# Altium integrated library Philips Discrete MOSFET - Power.IntLib: 73 symbols (part 1 of 2)
Pins are listed as number, name and electrical type; pins without a type are passive.

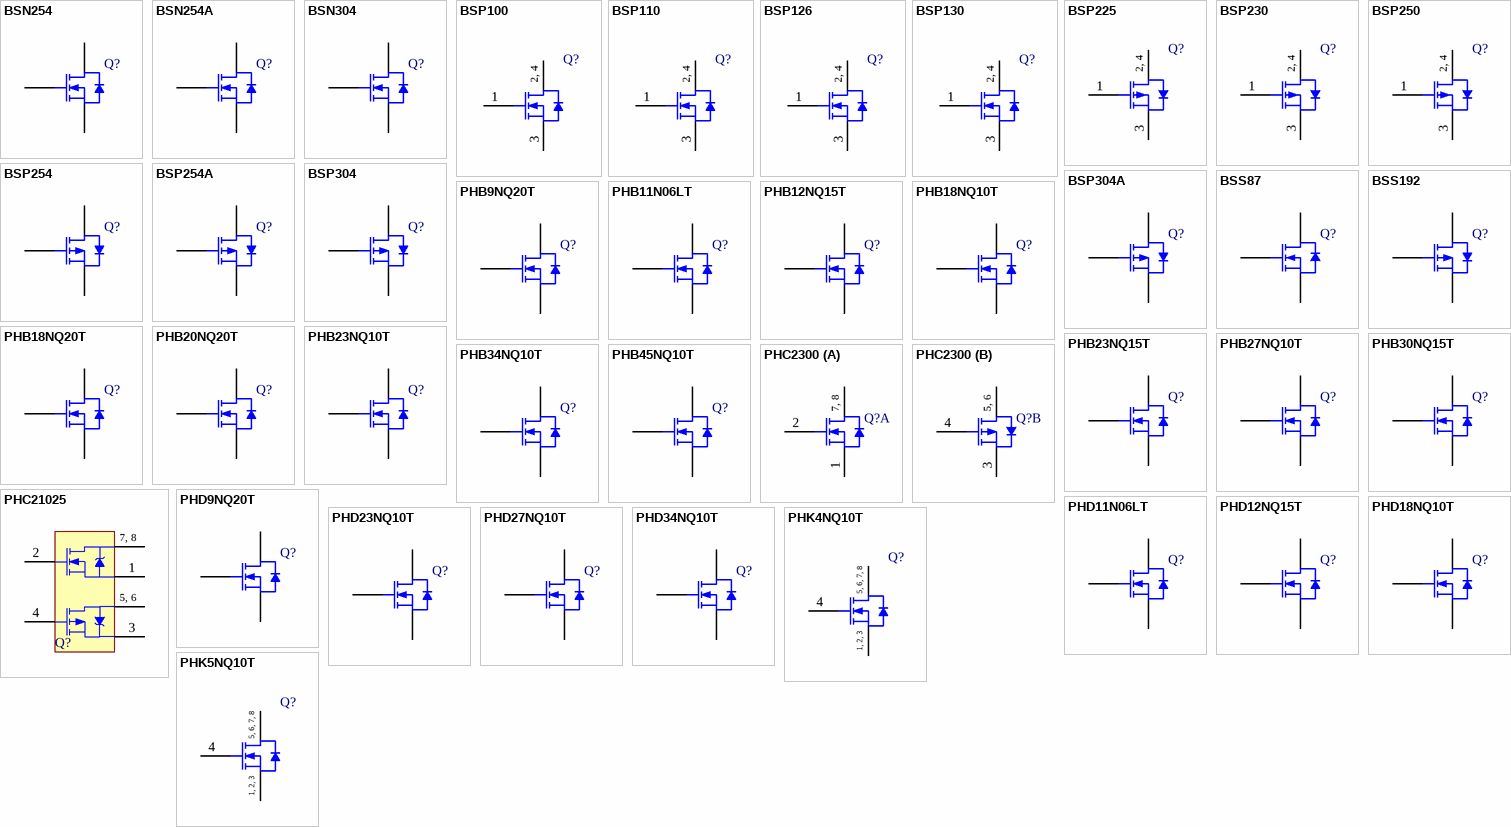
[diagram p0: symbols BSN254 to PHK5NQ10T]

## BSN254
designator Q?
N-channel Enhancement Mode Vertical D-MOSFET; Published: 17-Sep-2003; DatasheetVersion: 19-Feb-2002; PackageVersion: rev3, May-2000; PackageReference: SOT54; Publisher: Altium Limited; PackageDescription: TO, Flat Index; 3 In-Line, Axial Leads; Body Dia. 4.6mm; Leads 0.48 x 0.45 mm (max); Code_JEDEC: TO-92; ComponentLink1Description: Manufacturer Link; ComponentLink1URL: http://www.semiconductors.philips.com/; ComponentLink2Description: Datasheet; ComponentLink2URL: http://www.semiconductors.philips.com/acrobat/datasheets/BSN254_BSN254A_3.pdf
footprint SOT54 (TO, Flat Index; 3 In-Line, Axial Leads; Body Dia. 4.6mm; Leads 0.48 x 0.45 mm (max))
simulation model BSN254 (SUBCKT)
pins: 1 G, 2 D, 3 S

## BSN254A
designator Q?
N-channel Enhancement Mode Vertical D-MOSFET; Published: 17-Sep-2003; DatasheetVersion: 19-Feb-2002; PackageVersion: rev3, May-2000; PackageReference: SOT54; Publisher: Altium Limited; PackageDescription: TO, Flat Index; 3 In-Line, Axial Leads; Body Dia. 4.6mm; Leads 0.48 x 0.45 mm (max); Code_JEDEC: TO-92; ComponentLink1Description: Manufacturer Link; ComponentLink1URL: http://www.semiconductors.philips.com/; ComponentLink2Description: Datasheet; ComponentLink2URL: http://www.semiconductors.philips.com/acrobat/datasheets/BSN254_BSN254A_3.pdf
footprint SOT54 (TO, Flat Index; 3 In-Line, Axial Leads; Body Dia. 4.6mm; Leads 0.48 x 0.45 mm (max))
simulation model BSN254A (SUBCKT)
pins: 1 S, 2 G, 3 D

## BSN304
designator Q?
N-channel Enhancement Mode Vertical D-MOSFET; Published: 17-Sep-2003; DatasheetVersion: 11-Dec-2001; PackageVersion: rev3, May-2000; PackageReference: SOT54; Publisher: Altium Limited; PackageDescription: TO, Flat Index; 3 In-Line, Axial Leads; Body Dia. 4.6mm; Leads 0.48 x 0.45 mm (max); Code_JEDEC: TO-92; ComponentLink1Description: Manufacturer Link; ComponentLink1URL: http://www.semiconductors.philips.com/; ComponentLink2Description: Datasheet; ComponentLink2URL: http://www.semiconductors.philips.com/acrobat/datasheets/BSN304_3.pdf
footprint SOT54 (TO, Flat Index; 3 In-Line, Axial Leads; Body Dia. 4.6mm; Leads 0.48 x 0.45 mm (max))
simulation model BSN304 (SUBCKT)
pins: 1 G, 2 D, 3 S

## BSP100
designator Q?
N-channel Enhancement Mode MOSFET; Published: 17-Sep-2003; DatasheetVersion: Feb-1999; PackageVersion: Aug-2001; PackageReference: SOT223; Publisher: Altium Limited; PackageDescription: SOT-223/SC-73; 4 Leads; Body 6.7 x 7.3 mm, inc. leads (LxW max); ComponentLink1Description: Manufacturer Link; ComponentLink1URL: http://www.semiconductors.philips.com/; ComponentLink2Description: Datasheet; ComponentLink2URL: http://www.semiconductors.philips.com/acrobat/datasheets/BSP100_3.pdf
footprint SOT223 (SOT-223/SC-73; 4 Leads; Body 6.7 x 7.3 mm, inc. leads (LxW max))
simulation model BSP100 (SUBCKT)
pins: 1 G, 2 D, 3 S, 4 D
text: 2, 4

## BSP110
designator Q?
N-channel Enhancement Mode FET; Published: 17-Sep-2003; DatasheetVersion: 26-Jul-2000; PackageVersion: Aug-2001; PackageReference: SOT223; Publisher: Altium Limited; PackageDescription: SOT-223/SC-73; 4 Leads; Body 6.7 x 7.3 mm, inc. leads (LxW max); ComponentLink1Description: Manufacturer Link; ComponentLink1URL: http://www.semiconductors.philips.com/; ComponentLink2Description: Datasheet; ComponentLink2URL: http://www.semiconductors.philips.com/acrobat/datasheets/BSP110-03.pdf
footprint SOT223 (SOT-223/SC-73; 4 Leads; Body 6.7 x 7.3 mm, inc. leads (LxW max))
simulation model BSP110 (SUBCKT)
pins: 1 G, 2 D, 3 S, 4 D
text: 2, 4

## BSP126
designator Q?
N-channel Enhancement Mode Vertical D-MOSFET; Published: 17-Sep-2003; DatasheetVersion: 19-Feb-2002; PackageVersion: Aug-2001; PackageReference: SOT223; Publisher: Altium Limited; PackageDescription: SOT-223/SC-73; 4 Leads; Body 6.7 x 7.3 mm, inc. leads (LxW max); ComponentLink1Description: Manufacturer Link; ComponentLink1URL: http://www.semiconductors.philips.com/; ComponentLink2Description: Datasheet; ComponentLink2URL: http://www.semiconductors.philips.com/acrobat/datasheets/BSP126_3.pdf
footprint SOT223 (SOT-223/SC-73; 4 Leads; Body 6.7 x 7.3 mm, inc. leads (LxW max))
simulation model BSP126 (SUBCKT)
pins: 1 G, 2 D, 3 S, 4 D
text: 2, 4

## BSP130
designator Q?
N-channel Enhancement Mode Vertical D-MOSFET; Published: 17-Sep-2003; DatasheetVersion: 11-Dec-2001; PackageVersion: Aug-2001; PackageReference: SOT223; Publisher: Altium Limited; PackageDescription: SOT-223/SC-73; 4 Leads; Body 6.7 x 7.3 mm, inc. leads (LxW max); ComponentLink1Description: Manufacturer Link; ComponentLink1URL: http://www.semiconductors.philips.com/; ComponentLink2Description: Datasheet; ComponentLink2URL: http://www.semiconductors.philips.com/acrobat/datasheets/BSP130_3.pdf
footprint SOT223 (SOT-223/SC-73; 4 Leads; Body 6.7 x 7.3 mm, inc. leads (LxW max))
simulation model BSP130 (SUBCKT)
pins: 1 G, 2 D, 3 S, 4 D
text: 2, 4

## BSP225
designator Q?
P-channel Enhancement Mode Vertical D-MOSFET; Published: 17-Sep-2003; DatasheetVersion: Apr-1995; PackageVersion: Aug-2001; PackageReference: SOT223; Publisher: Altium Limited; PackageDescription: SOT-223/SC-73; 4 Leads; Body 6.7 x 7.3 mm, inc. leads (LxW max); ComponentLink1Description: Manufacturer Link; ComponentLink1URL: http://www.semiconductors.philips.com/; ComponentLink2Description: Datasheet; ComponentLink2URL: http://www.semiconductors.philips.com/acrobat/datasheets/BSP225_CNV_2.pdf
footprint SOT223 (SOT-223/SC-73; 4 Leads; Body 6.7 x 7.3 mm, inc. leads (LxW max))
simulation model BSP225 (SUBCKT)
pins: 1 G, 2 D, 3 S, 4 D
text: 2, 4

## BSP230
designator Q?
P-channel Enhancement Mode Vertical D-MOSFET; Published: 17-Sep-2003; DatasheetVersion: 17-Jun-1997; PackageVersion: Aug-2001; PackageReference: SOT223; Publisher: Altium Limited; PackageDescription: SOT-223/SC-73; 4 Leads; Body 6.7 x 7.3 mm, inc. leads (LxW max); ComponentLink1Description: Manufacturer Link; ComponentLink1URL: http://www.semiconductors.philips.com/; ComponentLink2Description: Datasheet; ComponentLink2URL: http://www.semiconductors.philips.com/acrobat/datasheets/BSP230_2.pdf
footprint SOT223 (SOT-223/SC-73; 4 Leads; Body 6.7 x 7.3 mm, inc. leads (LxW max))
simulation model BSP230 (SUBCKT)
pins: 1 G, 2 D, 3 S, 4 D
text: 2, 4

## BSP250
designator Q?
P-channel Enhancement Mode Vertical D-MOSFET; Published: 17-Sep-2003; DatasheetVersion: 20-Jun-1997; PackageVersion: Aug-2001; PackageReference: SOT223; Publisher: Altium Limited; PackageDescription: SOT-223/SC-73; 4 Leads; Body 6.7 x 7.3 mm, inc. leads (LxW max); ComponentLink1Description: Manufacturer Link; ComponentLink1URL: http://www.semiconductors.philips.com/; ComponentLink2Description: Datasheet; ComponentLink2URL: http://www.semiconductors.philips.com/acrobat/datasheets/BSP250_2.pdf
footprint SOT223 (SOT-223/SC-73; 4 Leads; Body 6.7 x 7.3 mm, inc. leads (LxW max))
simulation model BSP250 (SUBCKT)
pins: 1 G, 2 D, 3 S, 4 D
text: 2, 4

## BSP254
designator Q?
P-channel Enhancement Mode Vertical D-MOSFET; Published: 17-Sep-2003; DatasheetVersion: Apr-1995; PackageVersion: rev3, May-2000; PackageReference: SOT54; Publisher: Altium Limited; PackageDescription: TO, Flat Index; 3 In-Line, Axial Leads; Body Dia. 4.6mm; Leads 0.48 x 0.45 mm (max); Code_JEDEC: TO-92; ComponentLink1Description: Manufacturer Link; ComponentLink1URL: http://www.semiconductors.philips.com/; ComponentLink2Description: Datasheet; ComponentLink2URL: http://www.semiconductors.philips.com/acrobat/datasheets/BSP254_A_CNV_2.pdf
footprint SOT54 (TO, Flat Index; 3 In-Line, Axial Leads; Body Dia. 4.6mm; Leads 0.48 x 0.45 mm (max))
simulation model BSP254 (SUBCKT)
pins: 1 G, 2 D, 3 S

## BSP254A
designator Q?
P-channel Enhancement Mode Vertical D-MOSFET; Published: 17-Sep-2003; DatasheetVersion: Apr-1995; PackageVersion: rev3, May-2000; PackageReference: SOT54; Publisher: Altium Limited; PackageDescription: TO, Flat Index; 3 In-Line, Axial Leads; Body Dia. 4.6mm; Leads 0.48 x 0.45 mm (max); Code_JEDEC: TO-92; ComponentLink1Description: Manufacturer Link; ComponentLink1URL: http://www.semiconductors.philips.com/; ComponentLink2Description: Datasheet; ComponentLink2URL: http://www.semiconductors.philips.com/acrobat/datasheets/BSP254_A_CNV_2.pdf
footprint SOT54 (TO, Flat Index; 3 In-Line, Axial Leads; Body Dia. 4.6mm; Leads 0.48 x 0.45 mm (max))
simulation model BSP254A (SUBCKT)
pins: 1 S, 2 G, 3 D

## BSP304
designator Q?
P-channel Enhancement Mode Vertical D-MOSFET; Published: 17-Sep-2003; DatasheetVersion: 7-Apr-1995; PackageVersion: rev3, May-2000; PackageReference: SOT54; Publisher: Altium Limited; PackageDescription: TO, Flat Index; 3 In-Line, Axial Leads; Body Dia. 4.6mm; Leads 0.48 x 0.45 mm (max); Code_JEDEC: TO-92; ComponentLink1Description: Manufacturer Link; ComponentLink1URL: http://www.semiconductors.philips.com/; ComponentLink2Description: Datasheet; ComponentLink2URL: http://www.semiconductors.philips.com/acrobat/datasheets/BSP304_1.pdf
footprint SOT54 (TO, Flat Index; 3 In-Line, Axial Leads; Body Dia. 4.6mm; Leads 0.48 x 0.45 mm (max))
simulation model BSP304 (SUBCKT)
pins: 1 G, 2 D, 3 S

## BSP304A
designator Q?
P-channel Enhancement Mode Vertical D-MOSFET; Published: 17-Sep-2003; DatasheetVersion: 7-Apr-1995; PackageVersion: rev3, May-2000; PackageReference: SOT54; Publisher: Altium Limited; PackageDescription: TO, Flat Index; 3 In-Line, Axial Leads; Body Dia. 4.6mm; Leads 0.48 x 0.45 mm (max); Code_JEDEC: TO-92; ComponentLink1Description: Manufacturer Link; ComponentLink1URL: http://www.semiconductors.philips.com/; ComponentLink2Description: Datasheet; ComponentLink2URL: http://www.semiconductors.philips.com/acrobat/datasheets/BSP304_1.pdf
footprint SOT54 (TO, Flat Index; 3 In-Line, Axial Leads; Body Dia. 4.6mm; Leads 0.48 x 0.45 mm (max))
simulation model BSP304A (SUBCKT)
pins: 1 S, 2 G, 3 D

## BSS87
designator Q?
N-channel Enhancement Mode Vertical D-MOSFET; Published: 17-Sep-2003; LatestRevisionDate: 06-Jun-2005; LatestRevisionNote: PCB pad sequence reversed.; DatasheetVersion: 18-May-2001; PackageVersion: Apr-1999; PackageReference: SOT89; Publisher: Altium Limited; PackageDescription: SOT-89; Body 4.6 x 4.25 mm, inc. leads (LxW max); Reverse Pinning; Code_JEITA: SC-62; Code_JEDEC: TO-243-AA; Code_IPC: SOT 89; ComponentLink1Description: Manufacturer Link; ComponentLink1URL: http://www.semiconductors.philips.com/; ComponentLink2Description: Datasheet; ComponentLink2URL: http://www.semiconductors.philips.com/acrobat/datasheets/BSS87_3.pdf
footprint SOT89 (SOT-89; Body 4.6 x 4.25 mm, inc. leads (LxW max); Reverse Pinning)
simulation model BSS87 (SUBCKT)
pins: 1 S, 2 D, 3 G

## BSS192
designator Q?
P-channel Enhancement Mode Vertical D-MOSFET; Published: 17-Sep-2003; LatestRevisionDate: 06-Jun-2005; LatestRevisionNote: PCB pad sequence reversed.; DatasheetVersion: 22-May-2002; PackageVersion: Apr-1999; PackageReference: SOT89; Publisher: Altium Limited; PackageDescription: SOT-89; Body 4.6 x 4.25 mm, inc. leads (LxW max); Reverse Pinning; Code_JEITA: SC-62; Code_JEDEC: TO-243-AA; Code_IPC: SOT 89; ComponentLink1Description: Manufacturer Link; ComponentLink1URL: http://www.semiconductors.philips.com/; ComponentLink2Description: Datasheet; ComponentLink2URL: http://www.semiconductors.philips.com/acrobat/datasheets/BSS192_3.pdf
footprint SOT89 (SOT-89; Body 4.6 x 4.25 mm, inc. leads (LxW max); Reverse Pinning)
simulation model BSS192 (SUBCKT)
pins: 1 S, 2 D, 3 G

## PHB9NQ20T
designator Q?
N-channel, Enhancement Mode Field-effect Power Transistor; Note: Pin 2 is trimmed (and not drawn) and is electrically connected to Drain; Published: 17-Sep-2003; DatasheetVersion: Oct-2000; PackageVersion: rev1.0, Aug-1999; PackageReference: SOT404; Publisher: Altium Limited; PackageDescription: D2-PAK/TO-263-AB; 3 Leads (1 Cropped); Body 15.4 (inc. leads) x 10.3 mm (LxW max); ComponentLink1Description: Manufacturer Link; ComponentLink1URL: http://www.semiconductors.philips.com/; ComponentLink2Description: Datasheet; ComponentLink2URL: http://www.semiconductors.philips.com/acrobat/datasheets/PHB_PHD_PHP9NQ20T_2.pdf
footprint SOT404 (D2-PAK/TO-263-AB; 3 Leads (1 Cropped); Body 15.4 (inc. leads) x 10.3 mm (LxW max))
simulation model PHB9NQ20T (SUBCKT)
pins: 1 G, 3 S, 4 D

## PHB11N06LT
designator Q?
N-channel Enhancement Mode, Logic Level, Field-effect Power Transistor; Note: Pin 2 is trimmed (and not drawn) and is electrically connected to Drain; Published: 17-Sep-2003; DatasheetVersion: Aug-1999; PackageVersion: rev1.0, Aug-1999; PackageReference: SOT404; Publisher: Altium Limited; PackageDescription: D2-PAK/TO-263-AB; 3 Leads (1 Cropped); Body 15.4 (inc. leads) x 10.3 mm (LxW max); ComponentLink1Description: Manufacturer Link; ComponentLink1URL: http://www.semiconductors.philips.com/; ComponentLink2Description: Datasheet; ComponentLink2URL: http://www.semiconductors.philips.com/acrobat/datasheets/PHB_PHD_PHP11N06LT_3.pdf
footprint SOT404 (D2-PAK/TO-263-AB; 3 Leads (1 Cropped); Body 15.4 (inc. leads) x 10.3 mm (LxW max))
simulation model PHB11N06LT (SUBCKT)
pins: 1 G, 3 S, 4 D

## PHB12NQ15T
designator Q?
N-channel Enhancement Mode Field-effect Power Transistor; Note: Pin 2 is trimmed (and not drawn) and is electrically connected to Drain; Published: 17-Sep-2003; DatasheetVersion: Aug-1999; PackageVersion: rev1.0, Aug-1999; PackageReference: SOT404; Publisher: Altium Limited; PackageDescription: D2-PAK/TO-263-AB; 3 Leads (1 Cropped); Body 15.4 (inc. leads) x 10.3 mm (LxW max); ComponentLink1Description: Manufacturer Link; ComponentLink1URL: http://www.semiconductors.philips.com/; ComponentLink2Description: Datasheet; ComponentLink2URL: http://www.semiconductors.philips.com/acrobat/datasheets/PHB_PHD_PHP12NQ15T_1.pdf
footprint SOT404 (D2-PAK/TO-263-AB; 3 Leads (1 Cropped); Body 15.4 (inc. leads) x 10.3 mm (LxW max))
simulation model PHB12NQ15T (SUBCKT)
pins: 1 G, 3 S, 4 D

## PHB18NQ10T
designator Q?
N-channel Enhancement Mode Field-effect Power Transistor; Note: Pin 2 is trimmed (and not drawn) and is electrically connected to Drain; Published: 17-Sep-2003; DatasheetVersion: Aug-1999; PackageVersion: rev1.0, Aug-1999; PackageReference: SOT404; Publisher: Altium Limited; PackageDescription: D2-PAK/TO-263-AB; 3 Leads (1 Cropped); Body 15.4 (inc. leads) x 10.3 mm (LxW max); ComponentLink1Description: Manufacturer Link; ComponentLink1URL: http://www.semiconductors.philips.com/; ComponentLink2Description: Datasheet; ComponentLink2URL: http://www.semiconductors.philips.com/acrobat/datasheets/PHB_PHD_PHP18NQ10T_1.pdf
footprint SOT404 (D2-PAK/TO-263-AB; 3 Leads (1 Cropped); Body 15.4 (inc. leads) x 10.3 mm (LxW max))
simulation model PHB18NQ10T (SUBCKT)
pins: 1 G, 3 S, 4 D

## PHB18NQ20T
designator Q?
N-channel Enhancement Mode Field-effect Power Transistor; Note: Pin 2 is trimmed (and not drawn) and is electrically connected to Drain; ComponentAvailability: Obsolete; Published: 17-Sep-2003; DatasheetVersion: Aug-1999; PackageVersion: rev1.0, Aug-1999; PackageReference: SOT404; Publisher: Altium Limited; PackageDescription: D2-PAK/TO-263-AB; 3 Leads (1 Cropped); Body 15.4 (inc. leads) x 10.3 mm (LxW max); ComponentLink1Description: Manufacturer Link; ComponentLink1URL: http://www.semiconductors.philips.com/; ComponentLink2Description: Datasheet; ComponentLink2URL: http://www.semiconductors.philips.com/acrobat/datasheets/PHB_PHP18NQ20T_1.pdf; ComponentLink3Description: Discontinuation Notice; ComponentLink3URL: http://www.semiconductors.philips.com/pip/old/PHB_PHP18NQ20T_1.html
footprint SOT404 (D2-PAK/TO-263-AB; 3 Leads (1 Cropped); Body 15.4 (inc. leads) x 10.3 mm (LxW max))
simulation model PHB18NQ20T (SUBCKT)
pins: 1 G, 3 S, 4 D

## PHB20NQ20T
designator Q?
N-channel Enhancement Mode Field-effect Power Transistor; Note: Pin 2 is trimmed (and not drawn) and is electrically connected to Drain; Published: 17-Sep-2003; DatasheetVersion: Aug-1999; PackageVersion: rev1.0, Aug-1999; PackageReference: SOT404; Publisher: Altium Limited; PackageDescription: D2-PAK/TO-263-AB; 3 Leads (1 Cropped); Body 15.4 (inc. leads) x 10.3 mm (LxW max); ComponentLink1Description: Manufacturer Link; ComponentLink1URL: http://www.semiconductors.philips.com/; ComponentLink2Description: Datasheet; ComponentLink2URL: http://www.semiconductors.philips.com/acrobat/datasheets/PHB_PHP20NQ20T_1.pdf
footprint SOT404 (D2-PAK/TO-263-AB; 3 Leads (1 Cropped); Body 15.4 (inc. leads) x 10.3 mm (LxW max))
simulation model PHB20NQ20T (SUBCKT)
pins: 1 G, 3 S, 4 D

## PHB23NQ10T
designator Q?
N-channel Enhancement Mode Field-effect Power Transistor; Note: Pin 2 is trimmed (and not drawn) and is electrically connected to Drain; Published: 17-Sep-2003; DatasheetVersion: Aug-1999; PackageVersion: rev1.0, Aug-1999; PackageReference: SOT404; Publisher: Altium Limited; PackageDescription: D2-PAK/TO-263-AB; 3 Leads (1 Cropped); Body 15.4 (inc. leads) x 10.3 mm (LxW max); ComponentLink1Description: Manufacturer Link; ComponentLink1URL: http://www.semiconductors.philips.com/; ComponentLink2Description: Datasheet; ComponentLink2URL: http://www.semiconductors.philips.com/acrobat/datasheets/PHB_PHD_PHP23NQ10T_1.pdf
footprint SOT404 (D2-PAK/TO-263-AB; 3 Leads (1 Cropped); Body 15.4 (inc. leads) x 10.3 mm (LxW max))
simulation model PHB23NQ10T (SUBCKT)
pins: 1 G, 3 S, 4 D

## PHB23NQ15T
designator Q?
N-channel Enhancement Mode Field-effect Power Transistor; Note: Pin 2 is trimmed (and not drawn) and is electrically connected to Drain; ComponentAvailability: Obsolete; Published: 17-Sep-2003; DatasheetVersion: Aug-1999; PackageVersion: rev1.0, Aug-1999; PackageReference: SOT404; Publisher: Altium Limited; PackageDescription: D2-PAK/TO-263-AB; 3 Leads (1 Cropped); Body 15.4 (inc. leads) x 10.3 mm (LxW max); ComponentLink1Description: Manufacturer Link; ComponentLink1URL: http://www.semiconductors.philips.com/; ComponentLink2Description: Datasheet; ComponentLink2URL: http://www.semiconductors.philips.com/acrobat/datasheets/PHB_PHP23NQ15T_1.pdf; ComponentLink3Description: Discontinuation Notice; ComponentLink3URL: http://www.semiconductors.philips.com/pip/old/PHB_PHP23NQ15T_1.html
footprint SOT404 (D2-PAK/TO-263-AB; 3 Leads (1 Cropped); Body 15.4 (inc. leads) x 10.3 mm (LxW max))
simulation model PHB23NQ15T (SUBCKT)
pins: 1 G, 3 S, 4 D

## PHB27NQ10T
designator Q?
N-channel Enhancement Mode Field-effect Power Transistor; Note: Pin 2 is trimmed (and not drawn) and is electrically connected to Drain; Published: 17-Sep-2003; DatasheetVersion: Aug-1999; PackageVersion: rev1.0, Aug-1999; PackageReference: SOT404; Publisher: Altium Limited; PackageDescription: D2-PAK/TO-263-AB; 3 Leads (1 Cropped); Body 15.4 (inc. leads) x 10.3 mm (LxW max); ComponentLink1Description: Manufacturer Link; ComponentLink1URL: http://www.semiconductors.philips.com/; ComponentLink2Description: Datasheet; ComponentLink2URL: http://www.semiconductors.philips.com/acrobat/datasheets/PHB_PHD_PHP27NQ10T_1.pdf
footprint SOT404 (D2-PAK/TO-263-AB; 3 Leads (1 Cropped); Body 15.4 (inc. leads) x 10.3 mm (LxW max))
simulation model PHB27NQ10T (SUBCKT)
pins: 1 G, 3 S, 4 D

## PHB30NQ15T
designator Q?
N-channel Enhancement Mode Field-effect Power Transistor; Note: Pin 2 is trimmed (and not drawn) and is electrically connected to Drain; Published: 17-Sep-2003; DatasheetVersion: 12-Mar-2001; PackageVersion: rev1.0, Aug-1999; PackageReference: SOT404; Publisher: Altium Limited; PackageDescription: D2-PAK/TO-263-AB; 3 Leads (1 Cropped); Body 15.4 (inc. leads) x 10.3 mm (LxW max); ComponentLink1Description: Manufacturer Link; ComponentLink1URL: http://www.semiconductors.philips.com/; ComponentLink2Description: Datasheet; ComponentLink2URL: http://www.semiconductors.philips.com/acrobat/datasheets/PHB_PHP30NQ15T-02.pdf
footprint SOT404 (D2-PAK/TO-263-AB; 3 Leads (1 Cropped); Body 15.4 (inc. leads) x 10.3 mm (LxW max))
simulation model PHB30NQ15T (SUBCKT)
pins: 1 G, 3 S, 4 D

## PHB34NQ10T
designator Q?
N-channel Enhancement Mode Field-effect Power Transistor; Note: Pin 2 is trimmed (and not drawn) and is electrically connected to Drain; Published: 17-Sep-2003; DatasheetVersion: Aug-1999; PackageVersion: rev1.0, Aug-1999; PackageReference: SOT404; Publisher: Altium Limited; PackageDescription: D2-PAK/TO-263-AB; 3 Leads (1 Cropped); Body 15.4 (inc. leads) x 10.3 mm (LxW max); ComponentLink1Description: Manufacturer Link; ComponentLink1URL: http://www.semiconductors.philips.com/; ComponentLink2Description: Datasheet; ComponentLink2URL: http://www.semiconductors.philips.com/acrobat/datasheets/PHB_PHD_PHP34NQ10T_2.pdf
footprint SOT404 (D2-PAK/TO-263-AB; 3 Leads (1 Cropped); Body 15.4 (inc. leads) x 10.3 mm (LxW max))
simulation model PHB34NQ10T (SUBCKT)
pins: 1 G, 3 S, 4 D

## PHB45NQ10T
designator Q?
N-channel Enhancement Mode Field-effect Power Transistor; Note: Pin 2 is trimmed (and not drawn) and is electrically connected to Drain; Published: 17-Sep-2003; DatasheetVersion: Aug-1999; PackageVersion: rev1.0, Aug-1999; PackageReference: SOT404; Publisher: Altium Limited; PackageDescription: D2-PAK/TO-263-AB; 3 Leads (1 Cropped); Body 15.4 (inc. leads) x 10.3 mm (LxW max); ComponentLink1Description: Manufacturer Link; ComponentLink1URL: http://www.semiconductors.philips.com/; ComponentLink2Description: Datasheet; ComponentLink2URL: http://www.semiconductors.philips.com/acrobat/datasheets/PHB_PHP_PHW45NQ10T_1.pdf
footprint SOT404 (D2-PAK/TO-263-AB; 3 Leads (1 Cropped); Body 15.4 (inc. leads) x 10.3 mm (LxW max))
simulation model PHB45NQ10T (SUBCKT)
pins: 1 G, 3 S, 4 D

## PHC2300
designator Q?
Complementary Enhancement Mode MOSFETs; Published: 17-Sep-2003; LatestRevisionDate: 13-Apr-2006; LatestRevisionNote: IPC-7351 Footprint Added.; DatasheetVersion: 9-Jul-2002; PackageVersion: Jun-1997; PackageReference: SOT96-1; Publisher: Altium Limited; PackageDescription: 8-Pin Plastic Small Outline Integrated Circuit 1.27 mm Pitch; Code_JEDEC: MS-012-AA; ComponentLink1Description: Manufacturer Link; ComponentLink1URL: http://www.semiconductors.philips.com/; ComponentLink2Description: Datasheet; ComponentLink2URL: http://www.semiconductors.philips.com/acrobat/datasheets/PHC2300_3.pdf
footprint SOT96-1_N (SOIC, 8-Leads, Body 4.9x3.9mm, Pitch 1.27mm, IPC Medium Density)
footprint SOT96-1_L (SOIC, 8-Leads, Body 4.9x3.9mm, Pitch 1.27mm, IPC High Density)
footprint SOT96-1_M (SOIC, 8-Leads, Body 4.9x3.9mm, Pitch 1.27mm, IPC Low Density)
part A pins: 1 S1, 2 G1, 7 D1, 8 D1
part B pins: 3 S2, 4 G2, 5 D2, 6 D2
part A text: 7, 8
part B text: 5, 6

## PHC21025
designator Q?
Complementary Enhancement Mode MOSFETs; Published: 17-Sep-2003; LatestRevisionDate: 13-Apr-2006; LatestRevisionNote: IPC-7351 Footprint Added.; DatasheetVersion: 20-Jun-1997; PackageVersion: Jun-1997; PackageReference: SOT96-1; Publisher: Altium Limited; PackageDescription: 8-Pin Plastic Small Outline Integrated Circuit 1.27 mm Pitch; Code_JEDEC: MS-012-AA; ComponentLink1Description: Manufacturer Link; ComponentLink1URL: http://www.semiconductors.philips.com/; ComponentLink2Description: Datasheet; ComponentLink2URL: http://www.semiconductors.philips.com/acrobat/datasheets/PHC21025_2.pdf
footprint SOT96-1_N (SOIC, 8-Leads, Body 4.9x3.9mm, Pitch 1.27mm, IPC Medium Density)
footprint SOT96-1_L (SOIC, 8-Leads, Body 4.9x3.9mm, Pitch 1.27mm, IPC High Density)
footprint SOT96-1_M (SOIC, 8-Leads, Body 4.9x3.9mm, Pitch 1.27mm, IPC Low Density)
simulation model PHC21025 (SUBCKT)
pins: 1 S1, 2 G1, 3 S2, 4 G2, 5 D2, 6 D2, 7 D1, 8 D1
text: 7, 8; 5, 6

## PHD9NQ20T
designator Q?
N-channel, Enhancement Mode Field-effect Power Transistor; Note: Pin 2 is trimmed (and not drawn) and is electrically connected to Drain; Published: 17-Sep-2003; DatasheetVersion: Oct-2000; PackageVersion: rev1.0, Aug-1999; PackageReference: SOT428; Publisher: Altium Limited; PackageDescription: D-PAK/TO-252-AA; 3 Leads (1 Cropped); Body 10.4 (inc. leads) x 6.7 mm (LxW max); Code_JEDEC: TO-252; Code_IPC: TS-003; ComponentLink1Description: Manufacturer Link; ComponentLink1URL: http://www.semiconductors.philips.com/; ComponentLink2Description: Datasheet; ComponentLink2URL: http://www.semiconductors.philips.com/acrobat/datasheets/PHB_PHD_PHP9NQ20T_2.pdf
footprint SOT428 (D-PAK/TO-252-AA; 3 Leads (1 Cropped); Body 10.4 (inc. leads) x 6.7 mm (LxW max))
simulation model PHD9NQ20T (SUBCKT)
pins: 1 G, 3 S, 4 D

## PHD11N06LT
designator Q?
N-channel Enhancement Mode, Logic Level, Field-effect Power Transistor; Note: Pin 2 is trimmed (and not drawn) and is electrically connected to Drain; Published: 17-Sep-2003; DatasheetVersion: Aug-1999; PackageVersion: rev1.0, Aug-1999; PackageReference: SOT428; Publisher: Altium Limited; PackageDescription: D-PAK/TO-252-AA; 3 Leads (1 Cropped); Body 10.4 (inc. leads) x 6.7 mm (LxW max); Code_JEDEC: TO-252; Code_IPC: TS-003; ComponentLink1Description: Manufacturer Link; ComponentLink1URL: http://www.semiconductors.philips.com/; ComponentLink2Description: Datasheet; ComponentLink2URL: http://www.semiconductors.philips.com/acrobat/datasheets/PHB_PHD_PHP11N06LT_3.pdf
footprint SOT428 (D-PAK/TO-252-AA; 3 Leads (1 Cropped); Body 10.4 (inc. leads) x 6.7 mm (LxW max))
simulation model PHD11N06LT (SUBCKT)
pins: 1 G, 3 S, 4 D

## PHD12NQ15T
designator Q?
N-channel Enhancement Mode Field-effect Power Transistor; Note: Pin 2 is trimmed (and not drawn) and is electrically connected to Drain; Published: 17-Sep-2003; DatasheetVersion: Aug-1999; PackageVersion: rev1.0, Aug-1999; PackageReference: SOT428; Publisher: Altium Limited; PackageDescription: D-PAK/TO-252-AA; 3 Leads (1 Cropped); Body 10.4 (inc. leads) x 6.7 mm (LxW max); Code_JEDEC: TO-252; Code_IPC: TS-003; ComponentLink1Description: Manufacturer Link; ComponentLink1URL: http://www.semiconductors.philips.com/; ComponentLink2Description: Datasheet; ComponentLink2URL: http://www.semiconductors.philips.com/acrobat/datasheets/PHB_PHD_PHP12NQ15T_1.pdf
footprint SOT428 (D-PAK/TO-252-AA; 3 Leads (1 Cropped); Body 10.4 (inc. leads) x 6.7 mm (LxW max))
simulation model PHD12NQ15T (SUBCKT)
pins: 1 G, 3 S, 4 D

## PHD18NQ10T
designator Q?
N-channel Enhancement Mode Field-effect Power Transistor; Note: Pin 2 is trimmed (and not drawn) and is electrically connected to Drain; Published: 17-Sep-2003; DatasheetVersion: Aug-1999; PackageVersion: rev1.0, Aug-1999; PackageReference: SOT428; Publisher: Altium Limited; PackageDescription: D-PAK/TO-252-AA; 3 Leads (1 Cropped); Body 10.4 (inc. leads) x 6.7 mm (LxW max); Code_JEDEC: TO-252; Code_IPC: TS-003; ComponentLink1Description: Manufacturer Link; ComponentLink1URL: http://www.semiconductors.philips.com/; ComponentLink2Description: Datasheet; ComponentLink2URL: http://www.semiconductors.philips.com/acrobat/datasheets/PHB_PHD_PHP18NQ10T_1.pdf
footprint SOT428 (D-PAK/TO-252-AA; 3 Leads (1 Cropped); Body 10.4 (inc. leads) x 6.7 mm (LxW max))
simulation model PHD18NQ10T (SUBCKT)
pins: 1 G, 3 S, 4 D

## PHD23NQ10T
designator Q?
N-channel Enhancement Mode Field-effect Power Transistor; Note: Pin 2 is trimmed (and not drawn) and is electrically connected to Drain; Published: 17-Sep-2003; DatasheetVersion: Aug-1999; PackageVersion: rev1.0, Aug-1999; PackageReference: SOT428; Publisher: Altium Limited; PackageDescription: D-PAK/TO-252-AA; 3 Leads (1 Cropped); Body 10.4 (inc. leads) x 6.7 mm (LxW max); Code_JEDEC: TO-252; Code_IPC: TS-003; ComponentLink1Description: Manufacturer Link; ComponentLink1URL: http://www.semiconductors.philips.com/; ComponentLink2Description: Datasheet; ComponentLink2URL: http://www.semiconductors.philips.com/acrobat/datasheets/PHB_PHD_PHP23NQ10T_1.pdf
footprint SOT428 (D-PAK/TO-252-AA; 3 Leads (1 Cropped); Body 10.4 (inc. leads) x 6.7 mm (LxW max))
simulation model PHD23NQ10T (SUBCKT)
pins: 1 G, 3 S, 4 D

## PHD27NQ10T
designator Q?
N-channel Enhancement Mode Field-effect Power Transistor; Note: Pin 2 is trimmed (and not drawn) and is electrically connected to Drain; Published: 17-Sep-2003; DatasheetVersion: Aug-1999; PackageVersion: rev1.0, Aug-1999; PackageReference: SOT428; Publisher: Altium Limited; PackageDescription: D-PAK/TO-252-AA; 3 Leads (1 Cropped); Body 10.4 (inc. leads) x 6.7 mm (LxW max); Code_JEDEC: TO-252; Code_IPC: TS-003; ComponentLink1Description: Manufacturer Link; ComponentLink1URL: http://www.semiconductors.philips.com/; ComponentLink2Description: Datasheet; ComponentLink2URL: http://www.semiconductors.philips.com/acrobat/datasheets/PHB_PHD_PHP27NQ10T_1.pdf
footprint SOT428 (D-PAK/TO-252-AA; 3 Leads (1 Cropped); Body 10.4 (inc. leads) x 6.7 mm (LxW max))
simulation model PHD27NQ10T (SUBCKT)
pins: 1 G, 3 S, 4 D

## PHD34NQ10T
designator Q?
N-channel Enhancement Mode Field-effect Power Transistor; Note: Pin 2 is trimmed (and not drawn) and is electrically connected to Drain; Published: 17-Sep-2003; DatasheetVersion: Aug-1999; PackageVersion: rev1.0, Aug-1999; PackageReference: SOT428; Publisher: Altium Limited; PackageDescription: D-PAK/TO-252-AA; 3 Leads (1 Cropped); Body 10.4 (inc. leads) x 6.7 mm (LxW max); Code_JEDEC: TO-252; Code_IPC: TS-003; ComponentLink1Description: Manufacturer Link; ComponentLink1URL: http://www.semiconductors.philips.com/; ComponentLink2Description: Datasheet; ComponentLink2URL: http://www.semiconductors.philips.com/acrobat/datasheets/PHB_PHD_PHP34NQ10T_2.pdf
footprint SOT428 (D-PAK/TO-252-AA; 3 Leads (1 Cropped); Body 10.4 (inc. leads) x 6.7 mm (LxW max))
simulation model PHD34NQ10T (SUBCKT)
pins: 1 G, 3 S, 4 D

## PHK4NQ10T
designator Q?
N-channel Enhancement Mode Field-effect Transistor; Published: 17-Sep-2003; LatestRevisionDate: 13-Apr-2006; LatestRevisionNote: IPC-7351 Footprint Added.; DatasheetVersion: Aug-1999; PackageVersion: Jun-1997; PackageReference: SOT96-1; Publisher: Altium Limited; PackageDescription: 8-Pin Plastic Small Outline Integrated Circuit 1.27 mm Pitch; Code_JEDEC: MS-012-AA; ComponentLink1Description: Manufacturer Link; ComponentLink1URL: http://www.semiconductors.philips.com/; ComponentLink2Description: Datasheet; ComponentLink2URL: http://www.semiconductors.philips.com/acrobat/datasheets/PHK4NQ10T_1.pdf
footprint SOT96-1_N (SOIC, 8-Leads, Body 4.9x3.9mm, Pitch 1.27mm, IPC Medium Density)
footprint SOT96-1_L (SOIC, 8-Leads, Body 4.9x3.9mm, Pitch 1.27mm, IPC High Density)
footprint SOT96-1_M (SOIC, 8-Leads, Body 4.9x3.9mm, Pitch 1.27mm, IPC Low Density)
simulation model PHK4NQ10T (SUBCKT)
pins: 1 S, 2 S, 3 S, 4 G, 5 D, 6 D, 7 D, 8 D
text: 5, 6, 7, 8; 1, 2, 3

## PHK5NQ10T
designator Q?
N-channel Enhancement Mode Field-effect Transistor; ComponentAvailability: Obsolete; Published: 17-Sep-2003; LatestRevisionDate: 13-Apr-2006; LatestRevisionNote: IPC-7351 Footprint Added.; DatasheetVersion: Aug-1999; PackageVersion: Jun-1997; PackageReference: SOT96-1; Publisher: Altium Limited; PackageDescription: 8-Pin Plastic Small Outline Integrated Circuit 1.27 mm Pitch; Code_JEDEC: MS-012-AA; ComponentLink1Description: Manufacturer Link; ComponentLink1URL: http://www.semiconductors.philips.com/; ComponentLink2Description: Datasheet; ComponentLink2URL: http://www.semiconductors.philips.com/acrobat/datasheets/PHK5NQ10T_1.pdf; ComponentLink3Description: Discontinuation Notice; ComponentLink3URL: http://www.semiconductors.philips.com/pip/old/PHK5NQ10T.html
footprint SOT96-1_N (SOIC, 8-Leads, Body 4.9x3.9mm, Pitch 1.27mm, IPC Medium Density)
footprint SOT96-1_L (SOIC, 8-Leads, Body 4.9x3.9mm, Pitch 1.27mm, IPC High Density)
footprint SOT96-1_M (SOIC, 8-Leads, Body 4.9x3.9mm, Pitch 1.27mm, IPC Low Density)
simulation model PHK5NQ10T (SUBCKT)
pins: 1 S, 2 S, 3 S, 4 G, 5 D, 6 D, 7 D, 8 D
text: 5, 6, 7, 8; 1, 2, 3

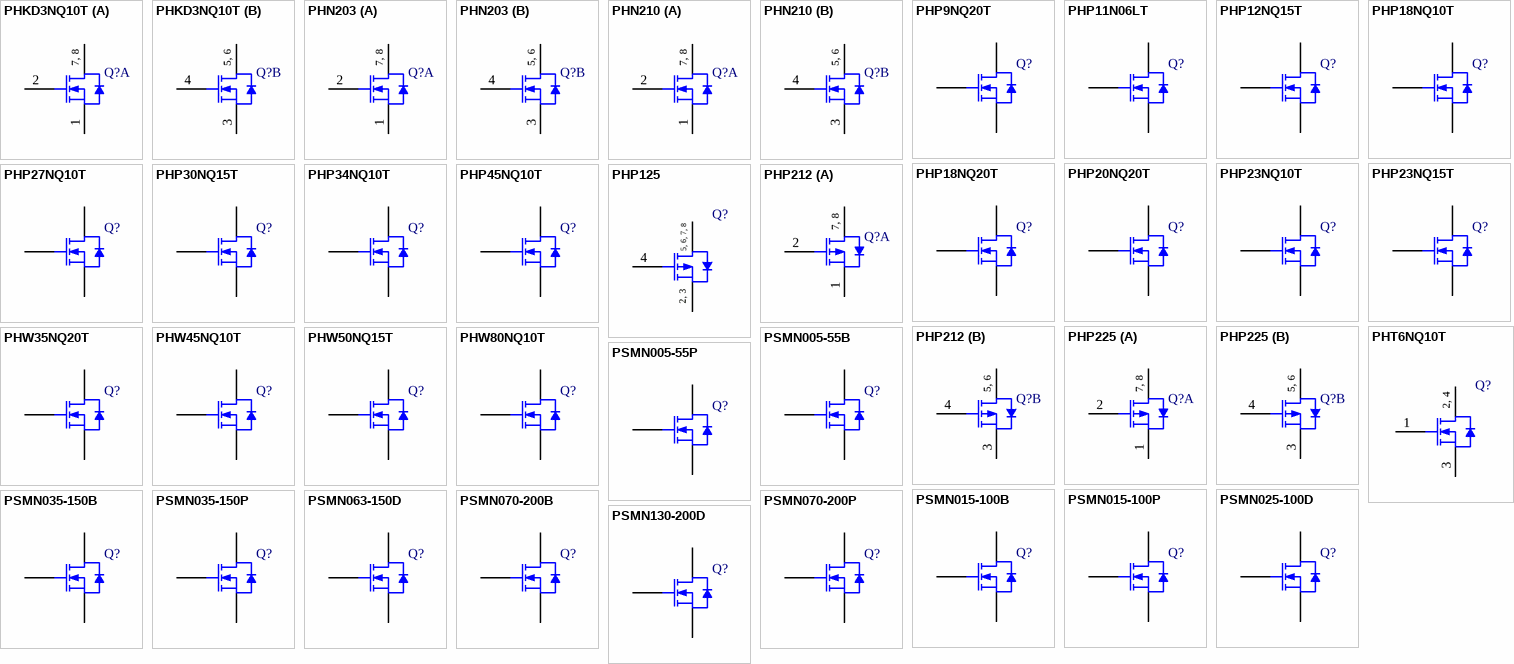
[diagram p1: symbols PHKD3NQ10T to PSMN130-200D]

## PHKD3NQ10T
designator Q?
Dual N-channel Enhancement Mode Field-effect Transistor; Published: 17-Sep-2003; LatestRevisionDate: 13-Apr-2006; LatestRevisionNote: IPC-7351 Footprint Added.; DatasheetVersion: Aug-1999; PackageVersion: Jun-1997; PackageReference: SOT96-1; Publisher: Altium Limited; PackageDescription: 8-Pin Plastic Small Outline Integrated Circuit 1.27 mm Pitch; Code_JEDEC: MS-012-AA; ComponentLink1Description: Manufacturer Link; ComponentLink1URL: http://www.semiconductors.philips.com/; ComponentLink2Description: Datasheet; ComponentLink2URL: http://www.semiconductors.philips.com/acrobat/datasheets/PHKD3NQ10T_1.pdf
footprint SOT96-1_N (SOIC, 8-Leads, Body 4.9x3.9mm, Pitch 1.27mm, IPC Medium Density)
footprint SOT96-1_L (SOIC, 8-Leads, Body 4.9x3.9mm, Pitch 1.27mm, IPC High Density)
footprint SOT96-1_M (SOIC, 8-Leads, Body 4.9x3.9mm, Pitch 1.27mm, IPC Low Density)
simulation model PHKD3NQ10T (SUBCKT)
part A pins: 1 S, 2 G, 7 D, 8 D
part B pins: 3 S, 4 G, 5 D, 6 D
part A text: 7, 8
part B text: 5, 6

## PHN203
designator Q?
Dual N-channel Enhancement Mode Field-effect Transistor; Published: 17-Sep-2003; LatestRevisionDate: 13-Apr-2006; LatestRevisionNote: IPC-7351 Footprint Added.; DatasheetVersion: Jan-1999; PackageVersion: Jun-1997; PackageReference: SOT96-1; Publisher: Altium Limited; PackageDescription: 8-Pin Plastic Small Outline Integrated Circuit 1.27 mm Pitch; Code_JEDEC: MS-012-AA; ComponentLink1Description: Manufacturer Link; ComponentLink1URL: http://www.semiconductors.philips.com/; ComponentLink2Description: Datasheet; ComponentLink2URL: http://www.semiconductors.philips.com/acrobat/datasheets/PHN203-03.pdf
footprint SOT96-1_N (SOIC, 8-Leads, Body 4.9x3.9mm, Pitch 1.27mm, IPC Medium Density)
footprint SOT96-1_L (SOIC, 8-Leads, Body 4.9x3.9mm, Pitch 1.27mm, IPC High Density)
footprint SOT96-1_M (SOIC, 8-Leads, Body 4.9x3.9mm, Pitch 1.27mm, IPC Low Density)
simulation model PHN203 (SUBCKT)
part A pins: 1 S, 2 G, 7 D, 8 D
part B pins: 3 S, 4 G, 5 D, 6 D
part A text: 7, 8
part B text: 5, 6

## PHN210
designator Q?
Dual N-channel Enhancement Mode Field-effect Transistor; Published: 17-Sep-2003; LatestRevisionDate: 13-Apr-2006; LatestRevisionNote: IPC-7351 Footprint Added.; DatasheetVersion: Jan-2002; PackageVersion: Jun-1997; PackageReference: SOT96-1; Publisher: Altium Limited; PackageDescription: 8-Pin Plastic Small Outline Integrated Circuit 1.27 mm Pitch; Code_JEDEC: MS-012-AA; ComponentLink1Description: Manufacturer Link; ComponentLink1URL: http://www.semiconductors.philips.com/; ComponentLink2Description: Datasheet; ComponentLink2URL: http://www.semiconductors.philips.com/acrobat/datasheets/PHN210_4.pdf
footprint SOT96-1_N (SOIC, 8-Leads, Body 4.9x3.9mm, Pitch 1.27mm, IPC Medium Density)
footprint SOT96-1_L (SOIC, 8-Leads, Body 4.9x3.9mm, Pitch 1.27mm, IPC High Density)
footprint SOT96-1_M (SOIC, 8-Leads, Body 4.9x3.9mm, Pitch 1.27mm, IPC Low Density)
simulation model PHN210 (SUBCKT)
part A pins: 1 S, 2 G, 7 D, 8 D
part B pins: 3 S, 4 G, 5 D, 6 D
part A text: 7, 8
part B text: 5, 6

## PHP9NQ20T
designator Q?
N-channel, Enhancement Mode Field-effect Power Transistor; Published: 17-Sep-2003; DatasheetVersion: Oct-2000; PackageVersion: rev1.0, Aug-1999; PackageReference: SOT78; Publisher: Altium Limited; PackageDescription: TO, Thru-Hole, Vertical, Heatsink Mounted; 3 In-Line Leads; Pitch 2.54 mm; Code_JEDEC: TO-220; ComponentLink1Description: Manufacturer Link; ComponentLink1URL: http://www.semiconductors.philips.com/; ComponentLink2Description: Datasheet; ComponentLink2URL: http://www.semiconductors.philips.com/acrobat/datasheets/PHB_PHD_PHP9NQ20T_2.pdf
footprint SOT78 (TO, Thru-Hole, Vertical, Heatsink Mounted; 3 In-Line Leads; Pitch 2.54 mm)
simulation model PHP9NQ20T (SUBCKT)
pins: 1 G, 2 D, 3 S

## PHP11N06LT
designator Q?
N-channel Enhancement Mode, Logic Level, Field-effect Power Transistor; Published: 17-Sep-2003; DatasheetVersion: Aug-1999; PackageVersion: rev1.0, Aug-1999; PackageReference: SOT78; Publisher: Altium Limited; PackageDescription: TO, Thru-Hole, Vertical, Heatsink Mounted; 3 In-Line Leads; Pitch 2.54 mm; Code_JEDEC: TO-220; ComponentLink1Description: Manufacturer Link; ComponentLink1URL: http://www.semiconductors.philips.com/; ComponentLink2Description: Datasheet; ComponentLink2URL: http://www.semiconductors.philips.com/acrobat/datasheets/PHB_PHD_PHP11N06LT_3.pdf
footprint SOT78 (TO, Thru-Hole, Vertical, Heatsink Mounted; 3 In-Line Leads; Pitch 2.54 mm)
simulation model PHP11N06LT (SUBCKT)
pins: 1 G, 2 D, 3 S

## PHP12NQ15T
designator Q?
N-channel Enhancement Mode Field-effect Power Transistor; Published: 17-Sep-2003; DatasheetVersion: Aug-1999; PackageVersion: rev1.0, Aug-1999; PackageReference: SOT78; Publisher: Altium Limited; PackageDescription: TO, Thru-Hole, Vertical, Heatsink Mounted; 3 In-Line Leads; Pitch 2.54 mm; Code_JEDEC: TO-220; ComponentLink1Description: Manufacturer Link; ComponentLink1URL: http://www.semiconductors.philips.com/; ComponentLink2Description: Datasheet; ComponentLink2URL: http://www.semiconductors.philips.com/acrobat/datasheets/PHB_PHD_PHP12NQ15T_1.pdf
footprint SOT78 (TO, Thru-Hole, Vertical, Heatsink Mounted; 3 In-Line Leads; Pitch 2.54 mm)
simulation model PHP12NQ15T (SUBCKT)
pins: 1 G, 2 D, 3 S

## PHP18NQ10T
designator Q?
N-channel Enhancement Mode Field-effect Power Transistor; Published: 17-Sep-2003; DatasheetVersion: Aug-1999; PackageVersion: rev1.0, Aug-1999; PackageReference: SOT78; Publisher: Altium Limited; PackageDescription: TO, Thru-Hole, Vertical, Heatsink Mounted; 3 In-Line Leads; Pitch 2.54 mm; Code_JEDEC: TO-220; ComponentLink1Description: Manufacturer Link; ComponentLink1URL: http://www.semiconductors.philips.com/; ComponentLink2Description: Datasheet; ComponentLink2URL: http://www.semiconductors.philips.com/acrobat/datasheets/PHB_PHD_PHP18NQ10T_1.pdf
footprint SOT78 (TO, Thru-Hole, Vertical, Heatsink Mounted; 3 In-Line Leads; Pitch 2.54 mm)
simulation model PHP18NQ10T (SUBCKT)
pins: 1 G, 2 D, 3 S

## PHP18NQ20T
designator Q?
N-channel Enhancement Mode Field-effect Power Transistor; ComponentAvailability: Obsolete; Published: 17-Sep-2003; DatasheetVersion: Aug-1999; PackageVersion: rev1.0, Aug-1999; PackageReference: SOT78; Publisher: Altium Limited; PackageDescription: TO, Thru-Hole, Vertical, Heatsink Mounted; 3 In-Line Leads; Pitch 2.54 mm; Code_JEDEC: TO-220; ComponentLink1Description: Manufacturer Link; ComponentLink1URL: http://www.semiconductors.philips.com/; ComponentLink2Description: Datasheet; ComponentLink2URL: http://www.semiconductors.philips.com/acrobat/datasheets/PHB_PHP18NQ20T_1.pdf; ComponentLink3Description: Discontinuation Notice; ComponentLink3URL: http://www.semiconductors.philips.com/pip/old/PHB_PHP18NQ20T_1.html
footprint SOT78 (TO, Thru-Hole, Vertical, Heatsink Mounted; 3 In-Line Leads; Pitch 2.54 mm)
simulation model PHP18NQ20T (SUBCKT)
pins: 1 G, 2 D, 3 S

## PHP20NQ20T
designator Q?
N-channel Enhancement Mode Field-effect Power Transistor; Published: 17-Sep-2003; DatasheetVersion: Aug-1999; PackageVersion: rev1.0, Aug-1999; PackageReference: SOT78; Publisher: Altium Limited; PackageDescription: TO, Thru-Hole, Vertical, Heatsink Mounted; 3 In-Line Leads; Pitch 2.54 mm; Code_JEDEC: TO-220; ComponentLink1Description: Manufacturer Link; ComponentLink1URL: http://www.semiconductors.philips.com/; ComponentLink2Description: Datasheet; ComponentLink2URL: http://www.semiconductors.philips.com/acrobat/datasheets/PHB_PHP20NQ20T_1.pdf
footprint SOT78 (TO, Thru-Hole, Vertical, Heatsink Mounted; 3 In-Line Leads; Pitch 2.54 mm)
simulation model PHP20NQ20T (SUBCKT)
pins: 1 G, 2 D, 3 S

## PHP23NQ10T
designator Q?
N-channel Enhancement Mode Field-effect Power Transistor; Published: 17-Sep-2003; DatasheetVersion: Aug-1999; PackageVersion: rev1.0, Aug-1999; PackageReference: SOT78; Publisher: Altium Limited; PackageDescription: TO, Thru-Hole, Vertical, Heatsink Mounted; 3 In-Line Leads; Pitch 2.54 mm; Code_JEDEC: TO-220; ComponentLink1Description: Manufacturer Link; ComponentLink1URL: http://www.semiconductors.philips.com/; ComponentLink2Description: Datasheet; ComponentLink2URL: http://www.semiconductors.philips.com/acrobat/datasheets/PHB_PHD_PHP23NQ10T_1.pdf
footprint SOT78 (TO, Thru-Hole, Vertical, Heatsink Mounted; 3 In-Line Leads; Pitch 2.54 mm)
simulation model PHP23NQ10T (SUBCKT)
pins: 1 G, 2 D, 3 S

## PHP23NQ15T
designator Q?
N-channel Enhancement Mode Field-effect Power Transistor; Published: 17-Sep-2003; DatasheetVersion: Aug-1999; PackageVersion: rev1.0, Aug-1999; PackageReference: SOT78; Publisher: Altium Limited; PackageDescription: TO, Thru-Hole, Vertical, Heatsink Mounted; 3 In-Line Leads; Pitch 2.54 mm; Code_JEDEC: TO-220; ComponentLink1Description: Manufacturer Link; ComponentLink1URL: http://www.semiconductors.philips.com/; ComponentLink2Description: Datasheet; ComponentLink2URL: http://www.semiconductors.philips.com/acrobat/datasheets/PHB_PHP23NQ15T_1.pdf
footprint SOT78 (TO, Thru-Hole, Vertical, Heatsink Mounted; 3 In-Line Leads; Pitch 2.54 mm)
simulation model PHP23NQ15T (SUBCKT)
pins: 1 G, 2 D, 3 S

## PHP27NQ10T
designator Q?
N-channel Enhancement Mode Field-effect Power Transistor; Published: 17-Sep-2003; DatasheetVersion: Aug-1999; PackageVersion: rev1.0, Aug-1999; PackageReference: SOT78; Publisher: Altium Limited; PackageDescription: TO, Thru-Hole, Vertical, Heatsink Mounted; 3 In-Line Leads; Pitch 2.54 mm; Code_JEDEC: TO-220; ComponentLink1Description: Manufacturer Link; ComponentLink1URL: http://www.semiconductors.philips.com/; ComponentLink2Description: Datasheet; ComponentLink2URL: http://www.semiconductors.philips.com/acrobat/datasheets/PHB_PHD_PHP27NQ10T_1.pdf
footprint SOT78 (TO, Thru-Hole, Vertical, Heatsink Mounted; 3 In-Line Leads; Pitch 2.54 mm)
simulation model PHP27NQ10T (SUBCKT)
pins: 1 G, 2 D, 3 S

## PHP30NQ15T
designator Q?
N-channel Enhancement Mode Field-effect Power Transistor; Published: 17-Sep-2003; DatasheetVersion: 12-Mar-2001; PackageVersion: rev1.0, Aug-1999; PackageReference: SOT78; Publisher: Altium Limited; PackageDescription: TO, Thru-Hole, Vertical, Heatsink Mounted; 3 In-Line Leads; Pitch 2.54 mm; Code_JEDEC: TO-220; ComponentLink1Description: Manufacturer Link; ComponentLink1URL: http://www.semiconductors.philips.com/; ComponentLink2Description: Datasheet; ComponentLink2URL: http://www.semiconductors.philips.com/acrobat/datasheets/PHB_PHP30NQ15T-02.pdf
footprint SOT78 (TO, Thru-Hole, Vertical, Heatsink Mounted; 3 In-Line Leads; Pitch 2.54 mm)
simulation model PHP30NQ15T (SUBCKT)
pins: 1 G, 2 D, 3 S

## PHP34NQ10T
designator Q?
N-channel Enhancement Mode Field-effect Power Transistor; Published: 17-Sep-2003; DatasheetVersion: Aug-1999; PackageVersion: rev1.0, Aug-1999; PackageReference: SOT78; Publisher: Altium Limited; PackageDescription: TO, Thru-Hole, Vertical, Heatsink Mounted; 3 In-Line Leads; Pitch 2.54 mm; Code_JEDEC: TO-220; ComponentLink1Description: Manufacturer Link; ComponentLink1URL: http://www.semiconductors.philips.com/; ComponentLink2Description: Datasheet; ComponentLink2URL: http://www.semiconductors.philips.com/acrobat/datasheets/PHB_PHD_PHP34NQ10T_2.pdf
footprint SOT78 (TO, Thru-Hole, Vertical, Heatsink Mounted; 3 In-Line Leads; Pitch 2.54 mm)
simulation model PHP34NQ10T (SUBCKT)
pins: 1 G, 2 D, 3 S

## PHP45NQ10T
designator Q?
N-channel Enhancement Mode Field-effect Power Transistor; Published: 17-Sep-2003; DatasheetVersion: Aug-1999; PackageVersion: rev1.0, Aug-1999; PackageReference: SOT78; Publisher: Altium Limited; PackageDescription: TO, Thru-Hole, Vertical, Heatsink Mounted; 3 In-Line Leads; Pitch 2.54 mm; Code_JEDEC: TO-220; ComponentLink1Description: Manufacturer Link; ComponentLink1URL: http://www.semiconductors.philips.com/; ComponentLink2Description: Datasheet; ComponentLink2URL: http://www.semiconductors.philips.com/acrobat/datasheets/PHB_PHP_PHW45NQ10T_1.pdf
footprint SOT78 (TO, Thru-Hole, Vertical, Heatsink Mounted; 3 In-Line Leads; Pitch 2.54 mm)
simulation model PHP45NQ10T (SUBCKT)
pins: 1 G, 2 D, 3 S

## PHP125
designator Q?
P-channel Enhancement Mode MOSFET; Note: Pin 1 is not connected and not drawn; ComponentAvailability: Obsolete; Published: 17-Sep-2003; LatestRevisionDate: 13-Apr-2006; LatestRevisionNote: IPC-7351 Footprint Added.; DatasheetVersion: 18-Jun-1997; PackageVersion: Jun-1997; PackageReference: SOT96-1; Publisher: Altium Limited; PackageDescription: 8-Pin Plastic Small Outline Integrated Circuit 1.27 mm Pitch; Code_JEDEC: MS-012-AA; ComponentLink1Description: Manufacturer Link; ComponentLink1URL: http://www.semiconductors.philips.com/; ComponentLink2Description: Datasheet; ComponentLink2URL: http://www.semiconductors.philips.com/acrobat/datasheets/PHP125_3.pdf; ComponentLink3Description: Discontinuation Notice; ComponentLink3URL: http://www.semiconductors.philips.com/pip/old/PHP125_3.html
footprint SOT96-1_N (SOIC, 8-Leads, Body 4.9x3.9mm, Pitch 1.27mm, IPC Medium Density)
footprint SOT96-1_L (SOIC, 8-Leads, Body 4.9x3.9mm, Pitch 1.27mm, IPC High Density)
footprint SOT96-1_M (SOIC, 8-Leads, Body 4.9x3.9mm, Pitch 1.27mm, IPC Low Density)
simulation model PHP125 (SUBCKT)
pins: 2 S, 3 S, 4 G, 5 D, 6 D, 7 D, 8 D
text: 5, 6, 7, 8; 2, 3

## PHP212
designator Q?
Dual P-channel Enhancement Mode MOSFET; ComponentAvailability: Obsolete; Published: 17-Sep-2003; LatestRevisionDate: 13-Apr-2006; LatestRevisionNote: IPC-7351 Footprint Added.; DatasheetVersion: 18-Jun-1997; PackageVersion: Jun-1997; PackageReference: SOT96-1; Publisher: Altium Limited; PackageDescription: 8-Pin Plastic Small Outline Integrated Circuit 1.27 mm Pitch; Code_JEDEC: MS-012-AA; ComponentLink1Description: Manufacturer Link; ComponentLink1URL: http://www.semiconductors.philips.com/; ComponentLink2Description: Datasheet; ComponentLink2URL: http://www.semiconductors.philips.com/acrobat/datasheets/PHP212_2.pdf; ComponentLink3Description: Discontinuation Notice; ComponentLink3URL: http://www.semiconductors.philips.com/pip/old/PHP212.html
footprint SOT96-1_N (SOIC, 8-Leads, Body 4.9x3.9mm, Pitch 1.27mm, IPC Medium Density)
footprint SOT96-1_L (SOIC, 8-Leads, Body 4.9x3.9mm, Pitch 1.27mm, IPC High Density)
footprint SOT96-1_M (SOIC, 8-Leads, Body 4.9x3.9mm, Pitch 1.27mm, IPC Low Density)
simulation model PHP212 (SUBCKT)
part A pins: 1 S, 2 G, 7 D, 8 D
part B pins: 3 S, 4 G, 5 D, 6 D
part A text: 7, 8
part B text: 5, 6

## PHP225
designator Q?
Dual P-channel Enhancement Mode MOSFET; Published: 17-Sep-2003; LatestRevisionDate: 13-Apr-2006; LatestRevisionNote: IPC-7351 Footprint Added.; DatasheetVersion: 20-Jun-1997; PackageVersion: Jun-1997; PackageReference: SOT96-1; Publisher: Altium Limited; PackageDescription: 8-Pin Plastic Small Outline Integrated Circuit 1.27 mm Pitch; Code_JEDEC: MS-012-AA; ComponentLink1Description: Manufacturer Link; ComponentLink1URL: http://www.semiconductors.philips.com/; ComponentLink2Description: Datasheet; ComponentLink2URL: http://www.semiconductors.philips.com/acrobat/datasheets/PHP225_2.pdf
footprint SOT96-1_N (SOIC, 8-Leads, Body 4.9x3.9mm, Pitch 1.27mm, IPC Medium Density)
footprint SOT96-1_L (SOIC, 8-Leads, Body 4.9x3.9mm, Pitch 1.27mm, IPC High Density)
footprint SOT96-1_M (SOIC, 8-Leads, Body 4.9x3.9mm, Pitch 1.27mm, IPC Low Density)
simulation model PHP225 (SUBCKT)
part A pins: 1 S, 2 G, 7 D, 8 D
part B pins: 3 S, 4 G, 5 D, 6 D
part A text: 7, 8
part B text: 5, 6

## PHT6NQ10T
designator Q?
N-channel Enhancement Mode Field-effect Transistor; Published: 17-Sep-2003; DatasheetVersion: Aug-1999; PackageVersion: Aug-2001; PackageReference: SOT223; Publisher: Altium Limited; PackageDescription: SOT-223/SC-73; 4 Leads; Body 6.7 x 7.3 mm, inc. leads (LxW max); ComponentLink1Description: Manufacturer Link; ComponentLink1URL: http://www.semiconductors.philips.com/; ComponentLink2Description: Datasheet; ComponentLink2URL: http://www.semiconductors.philips.com/acrobat/datasheets/PHT6NQ10T_1.pdf
footprint SOT223 (SOT-223/SC-73; 4 Leads; Body 6.7 x 7.3 mm, inc. leads (LxW max))
simulation model PHT6NQ10T (SUBCKT)
pins: 1 G, 2 D, 3 S, 4 D
text: 2, 4

## PHW35NQ20T
designator Q?
N-channel Enhancement Mode Field-effect Power Transistor; Note: TAB is connected to Drain; ComponentAvailability: Obsolete; Published: 17-Sep-2003; DatasheetVersion: Aug-1999; PackageVersion: rev1.0, Aug-1999; PackageReference: SOT429; Publisher: Altium Limited; PackageDescription: SIP with Mounting Hole; 3 Leads; Body 20.5 x 15.5 x 5 mm (typ); Pitch 5.45 mm; Code_JEDEC: TO-247-AE; ComponentLink1Description: Manufacturer Link; ComponentLink1URL: http://www.semiconductors.philips.com/; ComponentLink2Description: Datasheet; ComponentLink2URL: http://www.semiconductors.philips.com/acrobat/datasheets/PHW35NQ20T_1.pdf; ComponentLink3Description: Discontinuation Notice; ComponentLink3URL: http://www.semiconductors.philips.com/pip/old/PHW35NQ20T_1.html
footprint SOT429 (SIP with Mounting Hole; 3 Leads; Body 20.5 x 15.5 x 5 mm (typ); Pitch 5.45 mm)
simulation model PHW35NQ20T (SUBCKT)
pins: 1 G, 2 D, 3 S

## PHW45NQ10T
designator Q?
N-channel Enhancement Mode Field-effect Power Transistor; Published: 17-Sep-2003; DatasheetVersion: Aug-1999; PackageVersion: rev1.0, Aug-1999; PackageReference: SOT429; Publisher: Altium Limited; PackageDescription: SIP with Mounting Hole; 3 Leads; Body 20.5 x 15.5 x 5 mm (typ); Pitch 5.45 mm; Code_JEDEC: TO-247-AE; ComponentLink1Description: Manufacturer Link; ComponentLink1URL: http://www.semiconductors.philips.com/; ComponentLink2Description: Datasheet; ComponentLink2URL: http://www.semiconductors.philips.com/acrobat/datasheets/PHB_PHP_PHW45NQ10T_1.pdf
footprint SOT429 (SIP with Mounting Hole; 3 Leads; Body 20.5 x 15.5 x 5 mm (typ); Pitch 5.45 mm)
simulation model PHW45NQ10T (SUBCKT)
pins: 1 G, 2 D, 3 S

## PHW50NQ15T
designator Q?
N-channel Enhancement Mode Field-effect Power Transistor; Note: TAB is connected to Drain; ComponentAvailability: Obsolete; Published: 17-Sep-2003; DatasheetVersion: Aug-1999; PackageVersion: rev1.0, Aug-1999; PackageReference: SOT429; Publisher: Altium Limited; PackageDescription: SIP with Mounting Hole; 3 Leads; Body 20.5 x 15.5 x 5 mm (typ); Pitch 5.45 mm; Code_JEDEC: TO-247-AE; ComponentLink1Description: Manufacturer Link; ComponentLink1URL: http://www.semiconductors.philips.com/; ComponentLink2Description: Datasheet; ComponentLink2URL: http://www.semiconductors.philips.com/acrobat/datasheets/PHW50NQ15T_1.pdf; ComponentLink3Description: Discontinuation Notice; ComponentLink3URL: http://www.semiconductors.philips.com/pip/old/PHW50NQ15T.html
footprint SOT429 (SIP with Mounting Hole; 3 Leads; Body 20.5 x 15.5 x 5 mm (typ); Pitch 5.45 mm)
simulation model PHW50NQ15T (SUBCKT)
pins: 1 G, 2 D, 3 S